# EAGLE library part PP-924 (library ic)
PP-924, Phaseshifter 20-40MHz (Synergy Microwave)
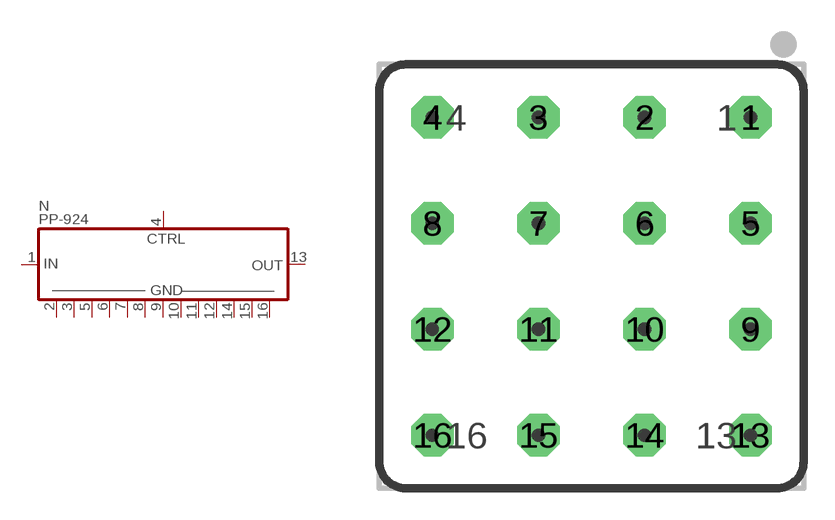
[diagram p115: symbol with the pads of SYNERGY-124; footprint SYNERGY-124]

Designator prefix N

## PP-924  [SYNERGY-124]
1  IN
2  GND  pwr
3  GND  pwr
4  CTRL  in
5  GND  pwr
6  GND  pwr
7  GND  pwr
8  GND  pwr
9  GND  pwr
10  GND  pwr
11  GND  pwr
12  GND  pwr
13  OUT
14  GND  pwr
15  GND  pwr
16  GND  pwr

## Footprint SYNERGY-124 (pad centres in mm)
Case 124, 16 pins (Synergy Microwave)
drill 0.889 pad 2.032 octagon: 1 7.62,7.62; 2 2.54,7.62; 3 -2.54,7.62; 4 -7.62,7.62; 5 7.62,2.54; 6 2.54,2.54; 7 -2.54,2.54; 8 -7.62,2.54; 9 7.62,-2.54; 10 2.54,-2.54; 11 -2.54,-2.54; 12 -7.62,-2.54; 13 7.62,-7.62; 14 2.54,-7.62; 15 -2.54,-7.62; 16 -7.62,-7.62